# Altium integrated library Silicon Labs Automotive & Industrial MCUs.IntLib: 240 symbols (part 7 of 8)
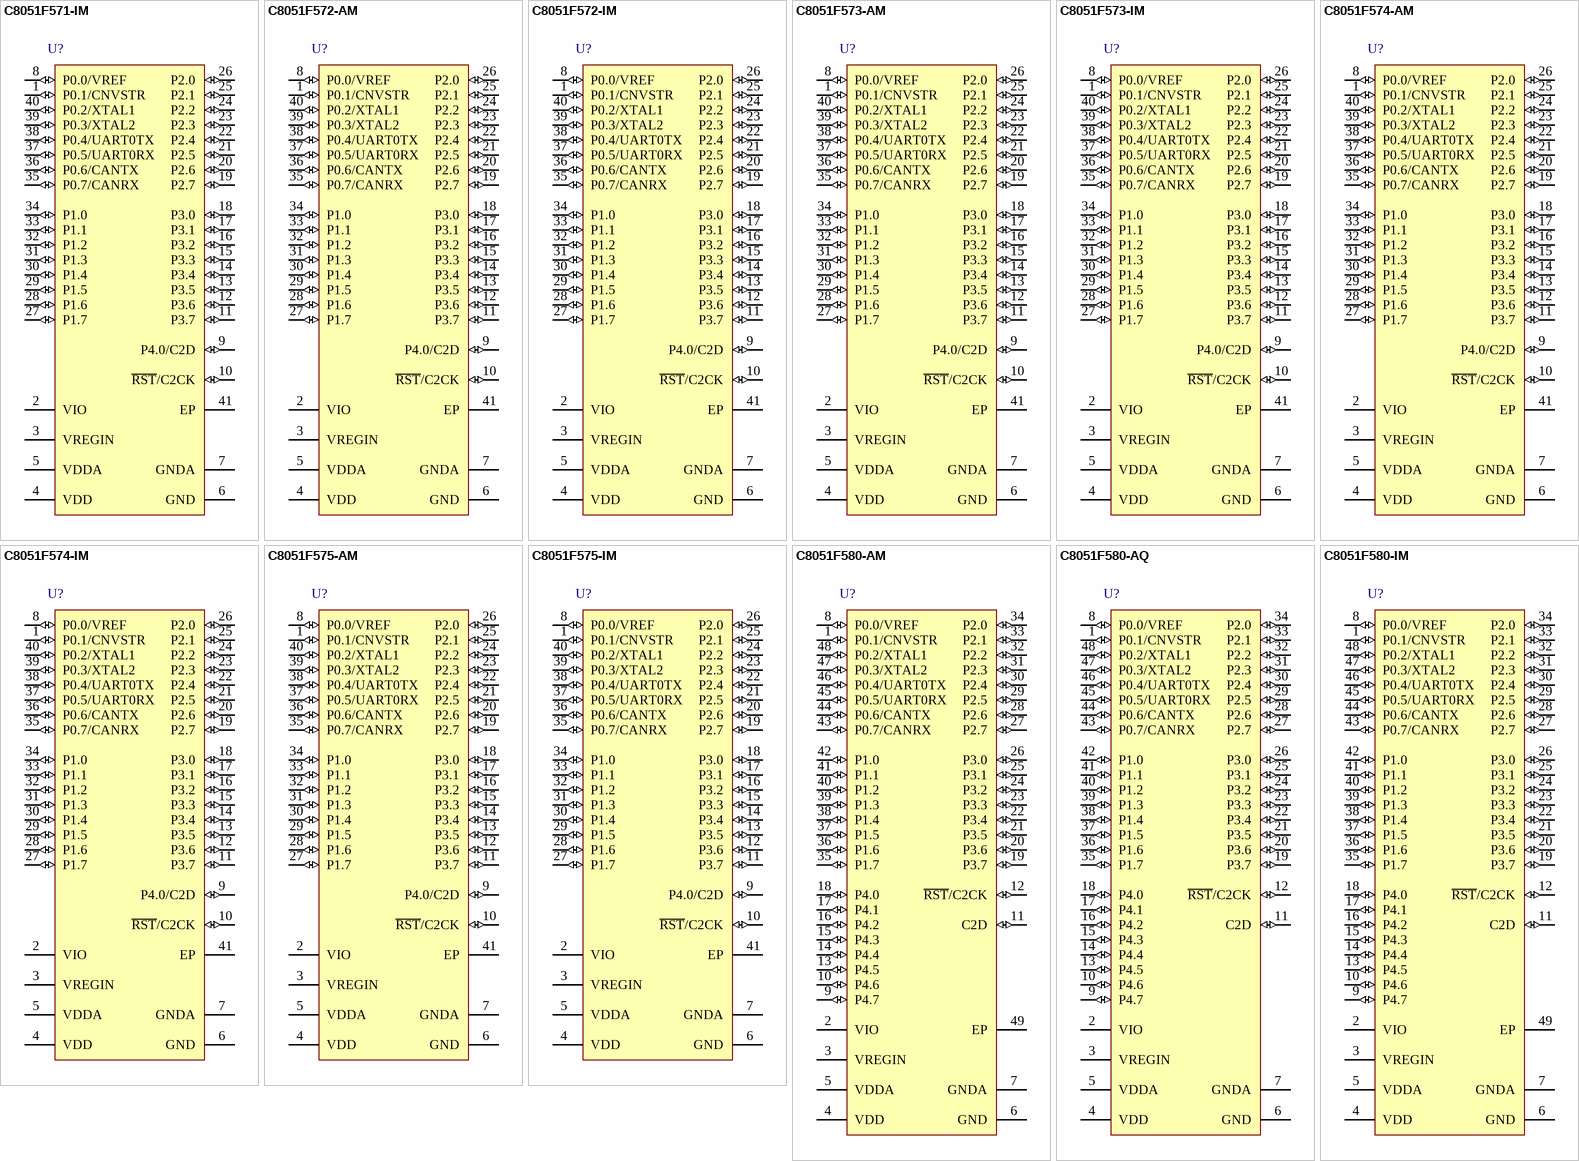
[diagram p19: symbols C8051F571-IM to C8051F580-IM]

## C8051F580-IM
designator U?
Mixed Signal 128KB ISP Flash MCU, 8448B RAM, 40 I/Os, 12-Bit 32 Channel ADC, CAN 2.0, LIN 2.1, 48-Pin QFN, Industrial Grade; Manufacturer: Silicon Labs; PartNumber: C8051F580-IM; DatasheetVersion: rev1.2, 2011; PackageVersion: 2011; PackageReference: QFN-48; PackageDescription: 48-Pin Quad Flat No-Lead, 7 x 7 x 0.9 mm Body, 0.5 mm Pitch; Supplier 1: Digi-Key; Supplier Part Number 1: 336-1565-5-ND; Supplier 2: Mouser; Supplier Part Number 2: 634-C8051F580-IM; Code_JEDEC: MO-220-VKKD-4; ComponentLink1Description: Manufacturer URL; ComponentLink1URL: http://www.silabs.com; ComponentLink2Description: Datasheet; ComponentLink2URL: http://www.silabs.com/Support%20Documents/TechnicalDocs/C8051F58x-59x.pdf
footprint QFN-48_V (QFN, 48-Leads, Body 7x7mm, Pitch 0.5mm, Thermal Pad 4.05x4.05mm, Silicon Labs Recommended)
pins: 1 P0.1/CNVSTR (io), 2 VIO (power), 3 VREGIN (power), 4 VDD (power), 5 VDDA (power), 6 GND (power), 7 GNDA (power), 8 P0.0/VREF (io), 9 P4.7 (io), 10 P4.6 (io), 11 C2D (io), 12 ~{RST}/C2CK (io), 13 P4.5 (io), 14 P4.4 (io), 15 P4.3 (io), 16 P4.2 (io), 17 P4.1 (io), 18 P4.0 (io), 19 P3.7 (io), 20 P3.6 (io), 21 P3.5 (io), 22 P3.4 (io), 23 P3.3 (io), 24 P3.2 (io), 25 P3.1 (io), 26 P3.0 (io), 27 P2.7 (io), 28 P2.6 (io), 29 P2.5 (io), 30 P2.4 (io), 31 P2.3 (io), 32 P2.2 (io), 33 P2.1 (io), 34 P2.0 (io), 35 P1.7 (io), 36 P1.6 (io), 37 P1.5 (io), 38 P1.4 (io), 39 P1.3 (io), 40 P1.2 (io), 41 P1.1 (io), 42 P1.0 (io), 43 P0.7/CANRX (io), 44 P0.6/CANTX (io), 45 P0.5/UART0RX (io), 46 P0.4/UART0TX (io), 47 P0.3/XTAL2 (io), 48 P0.2/XTAL1 (io), 49 EP (power)

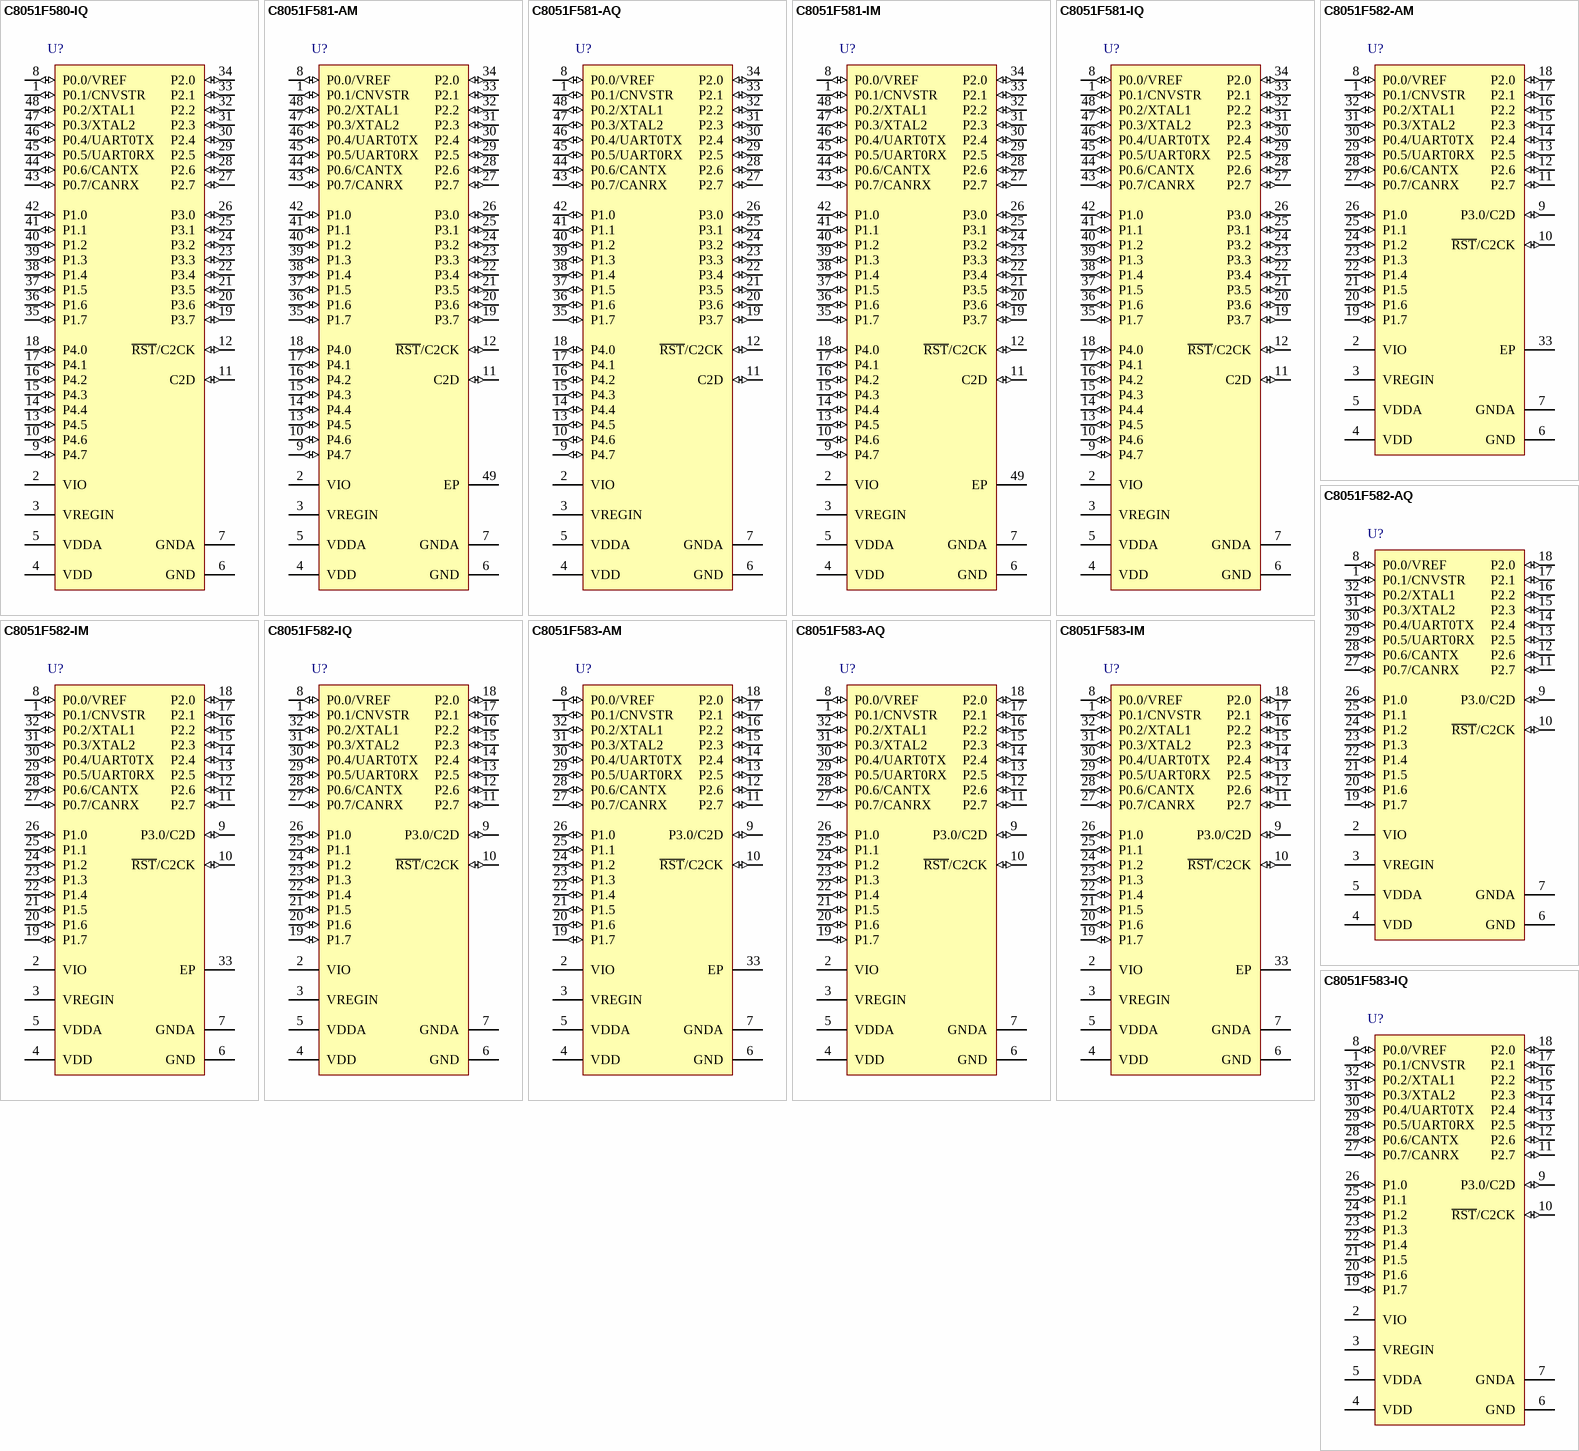
[diagram p11: symbols C8051F580-IQ to C8051F583-IQ]

## C8051F580-IQ
designator U?
Mixed Signal 128KB ISP Flash MCU, 8448B RAM, 40 I/Os, 12-Bit 32 Channel ADC, CAN 2.0, LIN 2.1, 48-Pin QFP, Industrial Grade; Manufacturer: Silicon Labs; PartNumber: C8051F580-IQ; DatasheetVersion: rev1.2, 2011; PackageVersion: 2011; PackageReference: QFP-48; PackageDescription: 48-Pin Thin Quad Flat Pack, 7 x 7 x 1 mm Body, 0.5 mm Pitch; Supplier 1: Digi-Key; Supplier Part Number 1: 336-1564-ND; Supplier 2: Mouser; Supplier Part Number 2: 634-C8051F580-IQ; Code_JEDEC: MS-026-ABC; ComponentLink1Description: Manufacturer URL; ComponentLink1URL: http://www.silabs.com; ComponentLink2Description: Datasheet; ComponentLink2URL: http://www.silabs.com/Support%20Documents/TechnicalDocs/C8051F58x-59x.pdf
footprint QFP-48_N (Thin QFP, 48-Leads, Body 7x7mm, Pitch 0.5mm, IPC Medium Density)
footprint QFP-48_L (Thin QFP, 48-Leads, Body 7x7mm, Pitch 0.5mm, IPC High Density)
footprint QFP-48_M (Thin QFP, 48-Leads, Body 7x7mm, Pitch 0.5mm, IPC Low Density)
pins: 1 P0.1/CNVSTR (io), 2 VIO (power), 3 VREGIN (power), 4 VDD (power), 5 VDDA (power), 6 GND (power), 7 GNDA (power), 8 P0.0/VREF (io), 9 P4.7 (io), 10 P4.6 (io), 11 C2D (io), 12 ~{RST}/C2CK (io), 13 P4.5 (io), 14 P4.4 (io), 15 P4.3 (io), 16 P4.2 (io), 17 P4.1 (io), 18 P4.0 (io), 19 P3.7 (io), 20 P3.6 (io), 21 P3.5 (io), 22 P3.4 (io), 23 P3.3 (io), 24 P3.2 (io), 25 P3.1 (io), 26 P3.0 (io), 27 P2.7 (io), 28 P2.6 (io), 29 P2.5 (io), 30 P2.4 (io), 31 P2.3 (io), 32 P2.2 (io), 33 P2.1 (io), 34 P2.0 (io), 35 P1.7 (io), 36 P1.6 (io), 37 P1.5 (io), 38 P1.4 (io), 39 P1.3 (io), 40 P1.2 (io), 41 P1.1 (io), 42 P1.0 (io), 43 P0.7/CANRX (io), 44 P0.6/CANTX (io), 45 P0.5/UART0RX (io), 46 P0.4/UART0TX (io), 47 P0.3/XTAL2 (io), 48 P0.2/XTAL1 (io)

## C8051F581-AM
designator U?
Mixed Signal 128KB ISP Flash MCU, 8448B RAM, 40 I/Os, 12-Bit 32 Channel ADC, 48-Pin QFN, Automotive Grade; Manufacturer: Silicon Labs; PartNumber: C8051F581-AM; DatasheetVersion: rev1.2, 2011; PackageVersion: 2011; PackageReference: QFN-48; PackageDescription: 48-Pin Quad Flat No-Lead, 7 x 7 x 0.9 mm Body, 0.5 mm Pitch; Code_JEDEC: MO-220-VKKD-4; ComponentLink1Description: Manufacturer URL; ComponentLink1URL: http://www.silabs.com; ComponentLink2Description: Datasheet; ComponentLink2URL: http://www.silabs.com/Support%20Documents/TechnicalDocs/C8051F58x-59x.pdf
footprint QFN-48_V (QFN, 48-Leads, Body 7x7mm, Pitch 0.5mm, Thermal Pad 4.05x4.05mm, Silicon Labs Recommended)
pins: 1 P0.1/CNVSTR (io), 2 VIO (power), 3 VREGIN (power), 4 VDD (power), 5 VDDA (power), 6 GND (power), 7 GNDA (power), 8 P0.0/VREF (io), 9 P4.7 (io), 10 P4.6 (io), 11 C2D (io), 12 ~{RST}/C2CK (io), 13 P4.5 (io), 14 P4.4 (io), 15 P4.3 (io), 16 P4.2 (io), 17 P4.1 (io), 18 P4.0 (io), 19 P3.7 (io), 20 P3.6 (io), 21 P3.5 (io), 22 P3.4 (io), 23 P3.3 (io), 24 P3.2 (io), 25 P3.1 (io), 26 P3.0 (io), 27 P2.7 (io), 28 P2.6 (io), 29 P2.5 (io), 30 P2.4 (io), 31 P2.3 (io), 32 P2.2 (io), 33 P2.1 (io), 34 P2.0 (io), 35 P1.7 (io), 36 P1.6 (io), 37 P1.5 (io), 38 P1.4 (io), 39 P1.3 (io), 40 P1.2 (io), 41 P1.1 (io), 42 P1.0 (io), 43 P0.7/CANRX (io), 44 P0.6/CANTX (io), 45 P0.5/UART0RX (io), 46 P0.4/UART0TX (io), 47 P0.3/XTAL2 (io), 48 P0.2/XTAL1 (io), 49 EP (power)

## C8051F581-AQ
designator U?
Mixed Signal 128KB ISP Flash MCU, 8448B RAM, 40 I/Os, 12-Bit 32 Channel ADC, 48-Pin QFP, Automotive Grade; Manufacturer: Silicon Labs; PartNumber: C8051F581-AQ; DatasheetVersion: rev1.2, 2011; PackageVersion: 2011; PackageReference: QFP-48; PackageDescription: 48-Pin Thin Quad Flat Pack, 7 x 7 x 1 mm Body, 0.5 mm Pitch; Code_JEDEC: MS-026-ABC; ComponentLink1Description: Manufacturer URL; ComponentLink1URL: http://www.silabs.com; ComponentLink2Description: Datasheet; ComponentLink2URL: http://www.silabs.com/Support%20Documents/TechnicalDocs/C8051F58x-59x.pdf
footprint QFP-48_N (Thin QFP, 48-Leads, Body 7x7mm, Pitch 0.5mm, IPC Medium Density)
footprint QFP-48_L (Thin QFP, 48-Leads, Body 7x7mm, Pitch 0.5mm, IPC High Density)
footprint QFP-48_M (Thin QFP, 48-Leads, Body 7x7mm, Pitch 0.5mm, IPC Low Density)
pins: 1 P0.1/CNVSTR (io), 2 VIO (power), 3 VREGIN (power), 4 VDD (power), 5 VDDA (power), 6 GND (power), 7 GNDA (power), 8 P0.0/VREF (io), 9 P4.7 (io), 10 P4.6 (io), 11 C2D (io), 12 ~{RST}/C2CK (io), 13 P4.5 (io), 14 P4.4 (io), 15 P4.3 (io), 16 P4.2 (io), 17 P4.1 (io), 18 P4.0 (io), 19 P3.7 (io), 20 P3.6 (io), 21 P3.5 (io), 22 P3.4 (io), 23 P3.3 (io), 24 P3.2 (io), 25 P3.1 (io), 26 P3.0 (io), 27 P2.7 (io), 28 P2.6 (io), 29 P2.5 (io), 30 P2.4 (io), 31 P2.3 (io), 32 P2.2 (io), 33 P2.1 (io), 34 P2.0 (io), 35 P1.7 (io), 36 P1.6 (io), 37 P1.5 (io), 38 P1.4 (io), 39 P1.3 (io), 40 P1.2 (io), 41 P1.1 (io), 42 P1.0 (io), 43 P0.7/CANRX (io), 44 P0.6/CANTX (io), 45 P0.5/UART0RX (io), 46 P0.4/UART0TX (io), 47 P0.3/XTAL2 (io), 48 P0.2/XTAL1 (io)

## C8051F581-IM
designator U?
Mixed Signal 128KB ISP Flash MCU, 8448B RAM, 40 I/Os, 12-Bit 32 Channel ADC, 48-Pin QFN, Industrial Grade; Manufacturer: Silicon Labs; PartNumber: C8051F581-IM; DatasheetVersion: rev1.2, 2011; PackageVersion: 2011; PackageReference: QFN-48; PackageDescription: 48-Pin Quad Flat No-Lead, 7 x 7 x 0.9 mm Body, 0.5 mm Pitch; Supplier 1: Digi-Key; Supplier Part Number 1: 336-1567-5-ND; Supplier 2: Mouser; Supplier Part Number 2: 634-C8051F581-IM; Code_JEDEC: MO-220-VKKD-4; ComponentLink1Description: Manufacturer URL; ComponentLink1URL: http://www.silabs.com; ComponentLink2Description: Datasheet; ComponentLink2URL: http://www.silabs.com/Support%20Documents/TechnicalDocs/C8051F58x-59x.pdf
footprint QFN-48_V (QFN, 48-Leads, Body 7x7mm, Pitch 0.5mm, Thermal Pad 4.05x4.05mm, Silicon Labs Recommended)
pins: 1 P0.1/CNVSTR (io), 2 VIO (power), 3 VREGIN (power), 4 VDD (power), 5 VDDA (power), 6 GND (power), 7 GNDA (power), 8 P0.0/VREF (io), 9 P4.7 (io), 10 P4.6 (io), 11 C2D (io), 12 ~{RST}/C2CK (io), 13 P4.5 (io), 14 P4.4 (io), 15 P4.3 (io), 16 P4.2 (io), 17 P4.1 (io), 18 P4.0 (io), 19 P3.7 (io), 20 P3.6 (io), 21 P3.5 (io), 22 P3.4 (io), 23 P3.3 (io), 24 P3.2 (io), 25 P3.1 (io), 26 P3.0 (io), 27 P2.7 (io), 28 P2.6 (io), 29 P2.5 (io), 30 P2.4 (io), 31 P2.3 (io), 32 P2.2 (io), 33 P2.1 (io), 34 P2.0 (io), 35 P1.7 (io), 36 P1.6 (io), 37 P1.5 (io), 38 P1.4 (io), 39 P1.3 (io), 40 P1.2 (io), 41 P1.1 (io), 42 P1.0 (io), 43 P0.7/CANRX (io), 44 P0.6/CANTX (io), 45 P0.5/UART0RX (io), 46 P0.4/UART0TX (io), 47 P0.3/XTAL2 (io), 48 P0.2/XTAL1 (io), 49 EP (power)

## C8051F581-IQ
designator U?
Mixed Signal 128KB ISP Flash MCU, 8448B RAM, 40 I/Os, 12-Bit 32 Channel ADC, 48-Pin QFP, Industrial Grade; Manufacturer: Silicon Labs; PartNumber: C8051F581-IQ; DatasheetVersion: rev1.2, 2011; PackageVersion: 2011; PackageReference: QFP-48; PackageDescription: 48-Pin Thin Quad Flat Pack, 7 x 7 x 1 mm Body, 0.5 mm Pitch; Supplier 1: Digi-Key; Supplier Part Number 1: 336-1566-ND; Supplier 2: Mouser; Supplier Part Number 2: 634-C8051F581-IQ; Code_JEDEC: MS-026-ABC; ComponentLink1Description: Manufacturer URL; ComponentLink1URL: http://www.silabs.com; ComponentLink2Description: Datasheet; ComponentLink2URL: http://www.silabs.com/Support%20Documents/TechnicalDocs/C8051F58x-59x.pdf
footprint QFP-48_N (Thin QFP, 48-Leads, Body 7x7mm, Pitch 0.5mm, IPC Medium Density)
footprint QFP-48_L (Thin QFP, 48-Leads, Body 7x7mm, Pitch 0.5mm, IPC High Density)
footprint QFP-48_M (Thin QFP, 48-Leads, Body 7x7mm, Pitch 0.5mm, IPC Low Density)
pins: 1 P0.1/CNVSTR (io), 2 VIO (power), 3 VREGIN (power), 4 VDD (power), 5 VDDA (power), 6 GND (power), 7 GNDA (power), 8 P0.0/VREF (io), 9 P4.7 (io), 10 P4.6 (io), 11 C2D (io), 12 ~{RST}/C2CK (io), 13 P4.5 (io), 14 P4.4 (io), 15 P4.3 (io), 16 P4.2 (io), 17 P4.1 (io), 18 P4.0 (io), 19 P3.7 (io), 20 P3.6 (io), 21 P3.5 (io), 22 P3.4 (io), 23 P3.3 (io), 24 P3.2 (io), 25 P3.1 (io), 26 P3.0 (io), 27 P2.7 (io), 28 P2.6 (io), 29 P2.5 (io), 30 P2.4 (io), 31 P2.3 (io), 32 P2.2 (io), 33 P2.1 (io), 34 P2.0 (io), 35 P1.7 (io), 36 P1.6 (io), 37 P1.5 (io), 38 P1.4 (io), 39 P1.3 (io), 40 P1.2 (io), 41 P1.1 (io), 42 P1.0 (io), 43 P0.7/CANRX (io), 44 P0.6/CANTX (io), 45 P0.5/UART0RX (io), 46 P0.4/UART0TX (io), 47 P0.3/XTAL2 (io), 48 P0.2/XTAL1 (io)

## C8051F582-AM
designator U?
Mixed Signal 128KB ISP Flash MCU, 8448B RAM, 25 I/Os, 12-Bit 25 Channel ADC, CAN 2.0, LIN 2.1, 32-Pin QFN, Automotive Grade; Manufacturer: Silicon Labs; PartNumber: C8051F582-AM; DatasheetVersion: rev1.2, 2011; PackageVersion: 2011; PackageReference: QFN-32; PackageDescription: 32-Pin Quad Flat No-Lead, 5 x 5 x 0.9 mm Body, 0.5 mm Pitch; Code_JEDEC: MO-220-VHHD; ComponentLink1Description: Manufacturer URL; ComponentLink1URL: http://www.silabs.com; ComponentLink2Description: Datasheet; ComponentLink2URL: http://www.silabs.com/Support%20Documents/TechnicalDocs/C8051F58x-59x.pdf
footprint QFN-32_V (QFN, 32-Leads, Body 5x5mm, Pitch 0.5mm, Thermal Pad 3.3x3.3mm, Silicon Labs Recommended)
pins: 1 P0.1/CNVSTR (io), 2 VIO (power), 3 VREGIN (power), 4 VDD (power), 5 VDDA (power), 6 GND (power), 7 GNDA (power), 8 P0.0/VREF (io), 9 P3.0/C2D (io), 10 ~{RST}/C2CK (io), 11 P2.7 (io), 12 P2.6 (io), 13 P2.5 (io), 14 P2.4 (io), 15 P2.3 (io), 16 P2.2 (io), 17 P2.1 (io), 18 P2.0 (io), 19 P1.7 (io), 20 P1.6 (io), 21 P1.5 (io), 22 P1.4 (io), 23 P1.3 (io), 24 P1.2 (io), 25 P1.1 (io), 26 P1.0 (io), 27 P0.7/CANRX (io), 28 P0.6/CANTX (io), 29 P0.5/UART0RX (io), 30 P0.4/UART0TX (io), 31 P0.3/XTAL2 (io), 32 P0.2/XTAL1 (io), 33 EP (power)

## C8051F582-AQ
designator U?
Mixed Signal 128KB ISP Flash MCU, 8448B RAM, 25 I/Os, 12-Bit 25 Channel ADC, CAN 2.0, LIN 2.1, 32-Pin QFP, Automotive Grade; Manufacturer: Silicon Labs; PartNumber: C8051F582-AQ; DatasheetVersion: rev1.2, 2011; PackageVersion: 2007; PackageReference: LQFP-32; PackageDescription: 32-Pin Thin Quad Flat Pack, 7 x 7 x 1.4 mm Body, 0.8 mm Pitch; ComponentLink1Description: Manufacturer URL; ComponentLink1URL: http://www.silabs.com; ComponentLink2Description: Datasheet; ComponentLink2URL: http://www.silabs.com/Support%20Documents/TechnicalDocs/C8051F58x-59x.pdf
footprint LQFP-32_N (Thin QFP, 32-Leads, Body 7x7mm, Pitch 0.8mm, IPC Medium Density)
footprint LQFP-32_L (Thin QFP, 32-Leads, Body 7x7mm, Pitch 0.8mm, IPC High Density)
footprint LQFP-32_M (Thin QFP, 32-Leads, Body 7x7mm, Pitch 0.8mm, IPC Low Density)
pins: 1 P0.1/CNVSTR (io), 2 VIO (power), 3 VREGIN (power), 4 VDD (power), 5 VDDA (power), 6 GND (power), 7 GNDA (power), 8 P0.0/VREF (io), 9 P3.0/C2D (io), 10 ~{RST}/C2CK (io), 11 P2.7 (io), 12 P2.6 (io), 13 P2.5 (io), 14 P2.4 (io), 15 P2.3 (io), 16 P2.2 (io), 17 P2.1 (io), 18 P2.0 (io), 19 P1.7 (io), 20 P1.6 (io), 21 P1.5 (io), 22 P1.4 (io), 23 P1.3 (io), 24 P1.2 (io), 25 P1.1 (io), 26 P1.0 (io), 27 P0.7/CANRX (io), 28 P0.6/CANTX (io), 29 P0.5/UART0RX (io), 30 P0.4/UART0TX (io), 31 P0.3/XTAL2 (io), 32 P0.2/XTAL1 (io)

## C8051F582-IM
designator U?
Mixed Signal 128KB ISP Flash MCU, 8448B RAM, 25 I/Os, 12-Bit 25 Channel ADC, CAN 2.0, LIN 2.1, 32-Pin QFN, Industrial Grade; Manufacturer: Silicon Labs; PartNumber: C8051F582-IM; DatasheetVersion: rev1.2, 2011; PackageVersion: 2011; PackageReference: QFN-32; PackageDescription: 32-Pin Quad Flat No-Lead, 5 x 5 x 0.9 mm Body, 0.5 mm Pitch; Supplier 1: Digi-Key; Supplier Part Number 1: 336-1569-5-ND; Supplier 2: Mouser; Supplier Part Number 2: 634-C8051F582-IM; Code_JEDEC: MO-220-VHHD; ComponentLink1Description: Manufacturer URL; ComponentLink1URL: http://www.silabs.com; ComponentLink2Description: Datasheet; ComponentLink2URL: http://www.silabs.com/Support%20Documents/TechnicalDocs/C8051F58x-59x.pdf
footprint QFN-32_V (QFN, 32-Leads, Body 5x5mm, Pitch 0.5mm, Thermal Pad 3.3x3.3mm, Silicon Labs Recommended)
pins: 1 P0.1/CNVSTR (io), 2 VIO (power), 3 VREGIN (power), 4 VDD (power), 5 VDDA (power), 6 GND (power), 7 GNDA (power), 8 P0.0/VREF (io), 9 P3.0/C2D (io), 10 ~{RST}/C2CK (io), 11 P2.7 (io), 12 P2.6 (io), 13 P2.5 (io), 14 P2.4 (io), 15 P2.3 (io), 16 P2.2 (io), 17 P2.1 (io), 18 P2.0 (io), 19 P1.7 (io), 20 P1.6 (io), 21 P1.5 (io), 22 P1.4 (io), 23 P1.3 (io), 24 P1.2 (io), 25 P1.1 (io), 26 P1.0 (io), 27 P0.7/CANRX (io), 28 P0.6/CANTX (io), 29 P0.5/UART0RX (io), 30 P0.4/UART0TX (io), 31 P0.3/XTAL2 (io), 32 P0.2/XTAL1 (io), 33 EP (power)

## C8051F582-IQ
designator U?
Mixed Signal 128KB ISP Flash MCU, 8448B RAM, 25 I/Os, 12-Bit 25 Channel ADC, CAN 2.0, LIN 2.1, 32-Pin QFP, Industrial Grade; Manufacturer: Silicon Labs; PartNumber: C8051F582-IQ; DatasheetVersion: rev1.2, 2011; PackageVersion: 2007; PackageReference: LQFP-32; PackageDescription: 32-Pin Thin Quad Flat Pack, 7 x 7 x 1.4 mm Body, 0.8 mm Pitch; Supplier 1: Digi-Key; Supplier Part Number 1: 336-1568-ND; Supplier 2: Mouser; Supplier Part Number 2: 634-C8051F582-IQ; ComponentLink1Description: Manufacturer URL; ComponentLink1URL: http://www.silabs.com; ComponentLink2Description: Datasheet; ComponentLink2URL: http://www.silabs.com/Support%20Documents/TechnicalDocs/C8051F58x-59x.pdf
footprint LQFP-32_N (Thin QFP, 32-Leads, Body 7x7mm, Pitch 0.8mm, IPC Medium Density)
footprint LQFP-32_L (Thin QFP, 32-Leads, Body 7x7mm, Pitch 0.8mm, IPC High Density)
footprint LQFP-32_M (Thin QFP, 32-Leads, Body 7x7mm, Pitch 0.8mm, IPC Low Density)
pins: 1 P0.1/CNVSTR (io), 2 VIO (power), 3 VREGIN (power), 4 VDD (power), 5 VDDA (power), 6 GND (power), 7 GNDA (power), 8 P0.0/VREF (io), 9 P3.0/C2D (io), 10 ~{RST}/C2CK (io), 11 P2.7 (io), 12 P2.6 (io), 13 P2.5 (io), 14 P2.4 (io), 15 P2.3 (io), 16 P2.2 (io), 17 P2.1 (io), 18 P2.0 (io), 19 P1.7 (io), 20 P1.6 (io), 21 P1.5 (io), 22 P1.4 (io), 23 P1.3 (io), 24 P1.2 (io), 25 P1.1 (io), 26 P1.0 (io), 27 P0.7/CANRX (io), 28 P0.6/CANTX (io), 29 P0.5/UART0RX (io), 30 P0.4/UART0TX (io), 31 P0.3/XTAL2 (io), 32 P0.2/XTAL1 (io)

## C8051F583-AM
designator U?
Mixed Signal 128KB ISP Flash MCU, 8448B RAM, 25 I/Os, 12-Bit 25 Channel ADC, 32-Pin QFN, Automotive Grade; Manufacturer: Silicon Labs; PartNumber: C8051F583-AM; DatasheetVersion: rev1.2, 2011; PackageVersion: 2011; PackageReference: QFN-32; PackageDescription: 32-Pin Quad Flat No-Lead, 5 x 5 x 0.9 mm Body, 0.5 mm Pitch; Code_JEDEC: MO-220-VHHD; ComponentLink1Description: Manufacturer URL; ComponentLink1URL: http://www.silabs.com; ComponentLink2Description: Datasheet; ComponentLink2URL: http://www.silabs.com/Support%20Documents/TechnicalDocs/C8051F58x-59x.pdf
footprint QFN-32_V (QFN, 32-Leads, Body 5x5mm, Pitch 0.5mm, Thermal Pad 3.3x3.3mm, Silicon Labs Recommended)
pins: 1 P0.1/CNVSTR (io), 2 VIO (power), 3 VREGIN (power), 4 VDD (power), 5 VDDA (power), 6 GND (power), 7 GNDA (power), 8 P0.0/VREF (io), 9 P3.0/C2D (io), 10 ~{RST}/C2CK (io), 11 P2.7 (io), 12 P2.6 (io), 13 P2.5 (io), 14 P2.4 (io), 15 P2.3 (io), 16 P2.2 (io), 17 P2.1 (io), 18 P2.0 (io), 19 P1.7 (io), 20 P1.6 (io), 21 P1.5 (io), 22 P1.4 (io), 23 P1.3 (io), 24 P1.2 (io), 25 P1.1 (io), 26 P1.0 (io), 27 P0.7/CANRX (io), 28 P0.6/CANTX (io), 29 P0.5/UART0RX (io), 30 P0.4/UART0TX (io), 31 P0.3/XTAL2 (io), 32 P0.2/XTAL1 (io), 33 EP (power)

## C8051F583-AQ
designator U?
Mixed Signal 128KB ISP Flash MCU, 8448B RAM, 25 I/Os, 12-Bit 25 Channel ADC, 32-Pin QFP, Automotive Grade; Manufacturer: Silicon Labs; PartNumber: C8051F583-AQ; DatasheetVersion: rev1.2, 2011; PackageVersion: 2007; PackageReference: LQFP-32; PackageDescription: 32-Pin Thin Quad Flat Pack, 7 x 7 x 1.4 mm Body, 0.8 mm Pitch; ComponentLink1Description: Manufacturer URL; ComponentLink1URL: http://www.silabs.com; ComponentLink2Description: Datasheet; ComponentLink2URL: http://www.silabs.com/Support%20Documents/TechnicalDocs/C8051F58x-59x.pdf
footprint LQFP-32_N (Thin QFP, 32-Leads, Body 7x7mm, Pitch 0.8mm, IPC Medium Density)
footprint LQFP-32_L (Thin QFP, 32-Leads, Body 7x7mm, Pitch 0.8mm, IPC High Density)
footprint LQFP-32_M (Thin QFP, 32-Leads, Body 7x7mm, Pitch 0.8mm, IPC Low Density)
pins: 1 P0.1/CNVSTR (io), 2 VIO (power), 3 VREGIN (power), 4 VDD (power), 5 VDDA (power), 6 GND (power), 7 GNDA (power), 8 P0.0/VREF (io), 9 P3.0/C2D (io), 10 ~{RST}/C2CK (io), 11 P2.7 (io), 12 P2.6 (io), 13 P2.5 (io), 14 P2.4 (io), 15 P2.3 (io), 16 P2.2 (io), 17 P2.1 (io), 18 P2.0 (io), 19 P1.7 (io), 20 P1.6 (io), 21 P1.5 (io), 22 P1.4 (io), 23 P1.3 (io), 24 P1.2 (io), 25 P1.1 (io), 26 P1.0 (io), 27 P0.7/CANRX (io), 28 P0.6/CANTX (io), 29 P0.5/UART0RX (io), 30 P0.4/UART0TX (io), 31 P0.3/XTAL2 (io), 32 P0.2/XTAL1 (io)

## C8051F583-IM
designator U?
Mixed Signal 128KB ISP Flash MCU, 8448B RAM, 25 I/Os, 12-Bit 25 Channel ADC, 32-Pin QFN, Industrial Grade; Manufacturer: Silicon Labs; PartNumber: C8051F583-IM; DatasheetVersion: rev1.2, 2011; PackageVersion: 2011; PackageReference: QFN-32; PackageDescription: 32-Pin Quad Flat No-Lead, 5 x 5 x 0.9 mm Body, 0.5 mm Pitch; Supplier 1: Digi-Key; Supplier Part Number 1: 336-1571-5-ND; Supplier 2: Mouser; Supplier Part Number 2: 634-C8051F583-IM; Code_JEDEC: MO-220-VHHD; ComponentLink1Description: Manufacturer URL; ComponentLink1URL: http://www.silabs.com; ComponentLink2Description: Datasheet; ComponentLink2URL: http://www.silabs.com/Support%20Documents/TechnicalDocs/C8051F58x-59x.pdf
footprint QFN-32_V (QFN, 32-Leads, Body 5x5mm, Pitch 0.5mm, Thermal Pad 3.3x3.3mm, Silicon Labs Recommended)
pins: 1 P0.1/CNVSTR (io), 2 VIO (power), 3 VREGIN (power), 4 VDD (power), 5 VDDA (power), 6 GND (power), 7 GNDA (power), 8 P0.0/VREF (io), 9 P3.0/C2D (io), 10 ~{RST}/C2CK (io), 11 P2.7 (io), 12 P2.6 (io), 13 P2.5 (io), 14 P2.4 (io), 15 P2.3 (io), 16 P2.2 (io), 17 P2.1 (io), 18 P2.0 (io), 19 P1.7 (io), 20 P1.6 (io), 21 P1.5 (io), 22 P1.4 (io), 23 P1.3 (io), 24 P1.2 (io), 25 P1.1 (io), 26 P1.0 (io), 27 P0.7/CANRX (io), 28 P0.6/CANTX (io), 29 P0.5/UART0RX (io), 30 P0.4/UART0TX (io), 31 P0.3/XTAL2 (io), 32 P0.2/XTAL1 (io), 33 EP (power)

## C8051F583-IQ
designator U?
Mixed Signal 128KB ISP Flash MCU, 8448B RAM, 25 I/Os, 12-Bit 25 Channel ADC, 32-Pin QFP, Industrial Grade; Manufacturer: Silicon Labs; PartNumber: C8051F583-IQ; DatasheetVersion: rev1.2, 2011; PackageVersion: 2007; PackageReference: LQFP-32; PackageDescription: 32-Pin Thin Quad Flat Pack, 7 x 7 x 1.4 mm Body, 0.8 mm Pitch; Supplier 1: Digi-Key; Supplier Part Number 1: 336-1570-ND; Supplier 2: Mouser; Supplier Part Number 2: 634-C8051F583-IQ; ComponentLink1Description: Manufacturer URL; ComponentLink1URL: http://www.silabs.com; ComponentLink2Description: Datasheet; ComponentLink2URL: http://www.silabs.com/Support%20Documents/TechnicalDocs/C8051F58x-59x.pdf
footprint LQFP-32_N (Thin QFP, 32-Leads, Body 7x7mm, Pitch 0.8mm, IPC Medium Density)
footprint LQFP-32_L (Thin QFP, 32-Leads, Body 7x7mm, Pitch 0.8mm, IPC High Density)
footprint LQFP-32_M (Thin QFP, 32-Leads, Body 7x7mm, Pitch 0.8mm, IPC Low Density)
pins: 1 P0.1/CNVSTR (io), 2 VIO (power), 3 VREGIN (power), 4 VDD (power), 5 VDDA (power), 6 GND (power), 7 GNDA (power), 8 P0.0/VREF (io), 9 P3.0/C2D (io), 10 ~{RST}/C2CK (io), 11 P2.7 (io), 12 P2.6 (io), 13 P2.5 (io), 14 P2.4 (io), 15 P2.3 (io), 16 P2.2 (io), 17 P2.1 (io), 18 P2.0 (io), 19 P1.7 (io), 20 P1.6 (io), 21 P1.5 (io), 22 P1.4 (io), 23 P1.3 (io), 24 P1.2 (io), 25 P1.1 (io), 26 P1.0 (io), 27 P0.7/CANRX (io), 28 P0.6/CANTX (io), 29 P0.5/UART0RX (io), 30 P0.4/UART0TX (io), 31 P0.3/XTAL2 (io), 32 P0.2/XTAL1 (io)

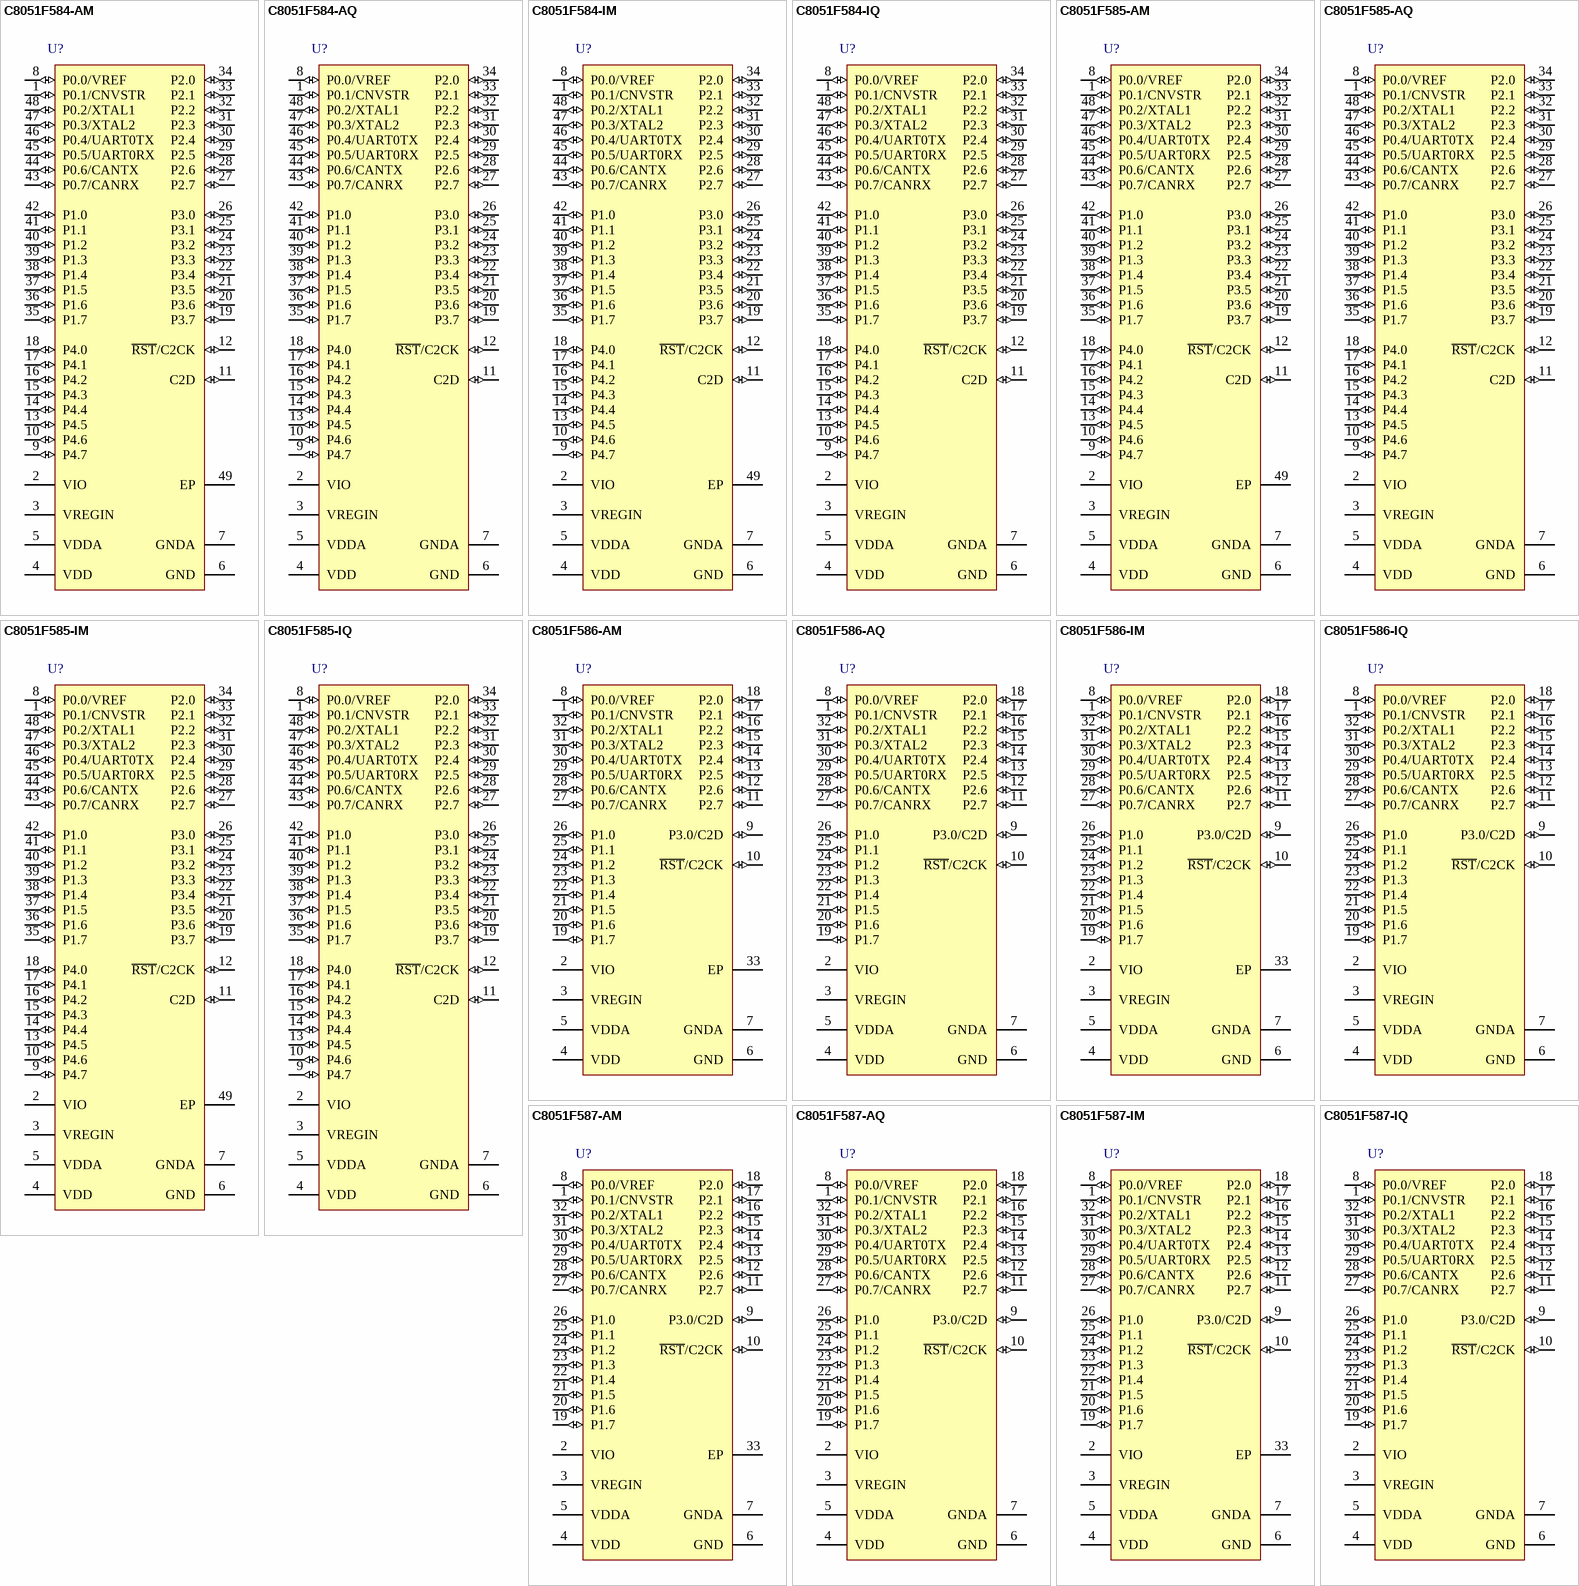
[diagram p12: symbols C8051F584-AM to C8051F587-IQ]

## C8051F584-AM
designator U?
Mixed Signal 96KB ISP Flash MCU, 8448B RAM, 40 I/Os, 12-Bit 32 Channel ADC, CAN 2.0, LIN 2.1, 48-Pin QFN, Automotive Grade; Manufacturer: Silicon Labs; PartNumber: C8051F584-AM; DatasheetVersion: rev1.2, 2011; PackageVersion: 2011; PackageReference: QFN-48; PackageDescription: 48-Pin Quad Flat No-Lead, 7 x 7 x 0.9 mm Body, 0.5 mm Pitch; Code_JEDEC: MO-220-VKKD-4; ComponentLink1Description: Manufacturer URL; ComponentLink1URL: http://www.silabs.com; ComponentLink2Description: Datasheet; ComponentLink2URL: http://www.silabs.com/Support%20Documents/TechnicalDocs/C8051F58x-59x.pdf
footprint QFN-48_V (QFN, 48-Leads, Body 7x7mm, Pitch 0.5mm, Thermal Pad 4.05x4.05mm, Silicon Labs Recommended)
pins: 1 P0.1/CNVSTR (io), 2 VIO (power), 3 VREGIN (power), 4 VDD (power), 5 VDDA (power), 6 GND (power), 7 GNDA (power), 8 P0.0/VREF (io), 9 P4.7 (io), 10 P4.6 (io), 11 C2D (io), 12 ~{RST}/C2CK (io), 13 P4.5 (io), 14 P4.4 (io), 15 P4.3 (io), 16 P4.2 (io), 17 P4.1 (io), 18 P4.0 (io), 19 P3.7 (io), 20 P3.6 (io), 21 P3.5 (io), 22 P3.4 (io), 23 P3.3 (io), 24 P3.2 (io), 25 P3.1 (io), 26 P3.0 (io), 27 P2.7 (io), 28 P2.6 (io), 29 P2.5 (io), 30 P2.4 (io), 31 P2.3 (io), 32 P2.2 (io), 33 P2.1 (io), 34 P2.0 (io), 35 P1.7 (io), 36 P1.6 (io), 37 P1.5 (io), 38 P1.4 (io), 39 P1.3 (io), 40 P1.2 (io), 41 P1.1 (io), 42 P1.0 (io), 43 P0.7/CANRX (io), 44 P0.6/CANTX (io), 45 P0.5/UART0RX (io), 46 P0.4/UART0TX (io), 47 P0.3/XTAL2 (io), 48 P0.2/XTAL1 (io), 49 EP (power)

## C8051F584-AQ
designator U?
Mixed Signal 96KB ISP Flash MCU, 8448B RAM, 40 I/Os, 12-Bit 32 Channel ADC, CAN 2.0, LIN 2.1, 48-Pin QFP, Automotive Grade; Manufacturer: Silicon Labs; PartNumber: C8051F584-AQ; DatasheetVersion: rev1.2, 2011; PackageVersion: 2011; PackageReference: QFP-48; PackageDescription: 48-Pin Thin Quad Flat Pack, 7 x 7 x 1 mm Body, 0.5 mm Pitch; Code_JEDEC: MS-026-ABC; ComponentLink1Description: Manufacturer URL; ComponentLink1URL: http://www.silabs.com; ComponentLink2Description: Datasheet; ComponentLink2URL: http://www.silabs.com/Support%20Documents/TechnicalDocs/C8051F58x-59x.pdf
footprint QFP-48_N (Thin QFP, 48-Leads, Body 7x7mm, Pitch 0.5mm, IPC Medium Density)
footprint QFP-48_L (Thin QFP, 48-Leads, Body 7x7mm, Pitch 0.5mm, IPC High Density)
footprint QFP-48_M (Thin QFP, 48-Leads, Body 7x7mm, Pitch 0.5mm, IPC Low Density)
pins: 1 P0.1/CNVSTR (io), 2 VIO (power), 3 VREGIN (power), 4 VDD (power), 5 VDDA (power), 6 GND (power), 7 GNDA (power), 8 P0.0/VREF (io), 9 P4.7 (io), 10 P4.6 (io), 11 C2D (io), 12 ~{RST}/C2CK (io), 13 P4.5 (io), 14 P4.4 (io), 15 P4.3 (io), 16 P4.2 (io), 17 P4.1 (io), 18 P4.0 (io), 19 P3.7 (io), 20 P3.6 (io), 21 P3.5 (io), 22 P3.4 (io), 23 P3.3 (io), 24 P3.2 (io), 25 P3.1 (io), 26 P3.0 (io), 27 P2.7 (io), 28 P2.6 (io), 29 P2.5 (io), 30 P2.4 (io), 31 P2.3 (io), 32 P2.2 (io), 33 P2.1 (io), 34 P2.0 (io), 35 P1.7 (io), 36 P1.6 (io), 37 P1.5 (io), 38 P1.4 (io), 39 P1.3 (io), 40 P1.2 (io), 41 P1.1 (io), 42 P1.0 (io), 43 P0.7/CANRX (io), 44 P0.6/CANTX (io), 45 P0.5/UART0RX (io), 46 P0.4/UART0TX (io), 47 P0.3/XTAL2 (io), 48 P0.2/XTAL1 (io)

## C8051F584-IM
designator U?
Mixed Signal 96KB ISP Flash MCU, 8448B RAM, 40 I/Os, 12-Bit 32 Channel ADC, CAN 2.0, LIN 2.1, 48-Pin QFN, Industrial Grade; Manufacturer: Silicon Labs; PartNumber: C8051F584-IM; DatasheetVersion: rev1.2, 2011; PackageVersion: 2011; PackageReference: QFN-48; PackageDescription: 48-Pin Quad Flat No-Lead, 7 x 7 x 0.9 mm Body, 0.5 mm Pitch; Supplier 1: Digi-Key; Supplier Part Number 1: 336-1573-5-ND; Supplier 2: Mouser; Supplier Part Number 2: 634-C8051F584-IM; Code_JEDEC: MO-220-VKKD-4; ComponentLink1Description: Manufacturer URL; ComponentLink1URL: http://www.silabs.com; ComponentLink2Description: Datasheet; ComponentLink2URL: http://www.silabs.com/Support%20Documents/TechnicalDocs/C8051F58x-59x.pdf
footprint QFN-48_V (QFN, 48-Leads, Body 7x7mm, Pitch 0.5mm, Thermal Pad 4.05x4.05mm, Silicon Labs Recommended)
pins: 1 P0.1/CNVSTR (io), 2 VIO (power), 3 VREGIN (power), 4 VDD (power), 5 VDDA (power), 6 GND (power), 7 GNDA (power), 8 P0.0/VREF (io), 9 P4.7 (io), 10 P4.6 (io), 11 C2D (io), 12 ~{RST}/C2CK (io), 13 P4.5 (io), 14 P4.4 (io), 15 P4.3 (io), 16 P4.2 (io), 17 P4.1 (io), 18 P4.0 (io), 19 P3.7 (io), 20 P3.6 (io), 21 P3.5 (io), 22 P3.4 (io), 23 P3.3 (io), 24 P3.2 (io), 25 P3.1 (io), 26 P3.0 (io), 27 P2.7 (io), 28 P2.6 (io), 29 P2.5 (io), 30 P2.4 (io), 31 P2.3 (io), 32 P2.2 (io), 33 P2.1 (io), 34 P2.0 (io), 35 P1.7 (io), 36 P1.6 (io), 37 P1.5 (io), 38 P1.4 (io), 39 P1.3 (io), 40 P1.2 (io), 41 P1.1 (io), 42 P1.0 (io), 43 P0.7/CANRX (io), 44 P0.6/CANTX (io), 45 P0.5/UART0RX (io), 46 P0.4/UART0TX (io), 47 P0.3/XTAL2 (io), 48 P0.2/XTAL1 (io), 49 EP (power)

## C8051F584-IQ
designator U?
Mixed Signal 96KB ISP Flash MCU, 8448B RAM, 40 I/Os, 12-Bit 32 Channel ADC, CAN 2.0, LIN 2.1, 48-Pin QFP, Industrial Grade; Manufacturer: Silicon Labs; PartNumber: C8051F584-IQ; DatasheetVersion: rev1.2, 2011; PackageVersion: 2011; PackageReference: QFP-48; PackageDescription: 48-Pin Thin Quad Flat Pack, 7 x 7 x 1 mm Body, 0.5 mm Pitch; Supplier 1: Digi-Key; Supplier Part Number 1: 336-1572-ND; Supplier 2: Mouser; Supplier Part Number 2: 634-C8051F584-IQ; Code_JEDEC: MS-026-ABC; ComponentLink1Description: Manufacturer URL; ComponentLink1URL: http://www.silabs.com; ComponentLink2Description: Datasheet; ComponentLink2URL: http://www.silabs.com/Support%20Documents/TechnicalDocs/C8051F58x-59x.pdf
footprint QFP-48_N (Thin QFP, 48-Leads, Body 7x7mm, Pitch 0.5mm, IPC Medium Density)
footprint QFP-48_L (Thin QFP, 48-Leads, Body 7x7mm, Pitch 0.5mm, IPC High Density)
footprint QFP-48_M (Thin QFP, 48-Leads, Body 7x7mm, Pitch 0.5mm, IPC Low Density)
pins: 1 P0.1/CNVSTR (io), 2 VIO (power), 3 VREGIN (power), 4 VDD (power), 5 VDDA (power), 6 GND (power), 7 GNDA (power), 8 P0.0/VREF (io), 9 P4.7 (io), 10 P4.6 (io), 11 C2D (io), 12 ~{RST}/C2CK (io), 13 P4.5 (io), 14 P4.4 (io), 15 P4.3 (io), 16 P4.2 (io), 17 P4.1 (io), 18 P4.0 (io), 19 P3.7 (io), 20 P3.6 (io), 21 P3.5 (io), 22 P3.4 (io), 23 P3.3 (io), 24 P3.2 (io), 25 P3.1 (io), 26 P3.0 (io), 27 P2.7 (io), 28 P2.6 (io), 29 P2.5 (io), 30 P2.4 (io), 31 P2.3 (io), 32 P2.2 (io), 33 P2.1 (io), 34 P2.0 (io), 35 P1.7 (io), 36 P1.6 (io), 37 P1.5 (io), 38 P1.4 (io), 39 P1.3 (io), 40 P1.2 (io), 41 P1.1 (io), 42 P1.0 (io), 43 P0.7/CANRX (io), 44 P0.6/CANTX (io), 45 P0.5/UART0RX (io), 46 P0.4/UART0TX (io), 47 P0.3/XTAL2 (io), 48 P0.2/XTAL1 (io)

## C8051F585-AM
designator U?
Mixed Signal 96KB ISP Flash MCU, 8448B RAM, 40 I/Os, 12-Bit 32 Channel ADC, 48-Pin QFN, Automotive Grade; Manufacturer: Silicon Labs; PartNumber: C8051F585-AM; DatasheetVersion: rev1.2, 2011; PackageVersion: 2011; PackageReference: QFN-48; PackageDescription: 48-Pin Quad Flat No-Lead, 7 x 7 x 0.9 mm Body, 0.5 mm Pitch; Code_JEDEC: MO-220-VKKD-4; ComponentLink1Description: Manufacturer URL; ComponentLink1URL: http://www.silabs.com; ComponentLink2Description: Datasheet; ComponentLink2URL: http://www.silabs.com/Support%20Documents/TechnicalDocs/C8051F58x-59x.pdf
footprint QFN-48_V (QFN, 48-Leads, Body 7x7mm, Pitch 0.5mm, Thermal Pad 4.05x4.05mm, Silicon Labs Recommended)
pins: 1 P0.1/CNVSTR (io), 2 VIO (power), 3 VREGIN (power), 4 VDD (power), 5 VDDA (power), 6 GND (power), 7 GNDA (power), 8 P0.0/VREF (io), 9 P4.7 (io), 10 P4.6 (io), 11 C2D (io), 12 ~{RST}/C2CK (io), 13 P4.5 (io), 14 P4.4 (io), 15 P4.3 (io), 16 P4.2 (io), 17 P4.1 (io), 18 P4.0 (io), 19 P3.7 (io), 20 P3.6 (io), 21 P3.5 (io), 22 P3.4 (io), 23 P3.3 (io), 24 P3.2 (io), 25 P3.1 (io), 26 P3.0 (io), 27 P2.7 (io), 28 P2.6 (io), 29 P2.5 (io), 30 P2.4 (io), 31 P2.3 (io), 32 P2.2 (io), 33 P2.1 (io), 34 P2.0 (io), 35 P1.7 (io), 36 P1.6 (io), 37 P1.5 (io), 38 P1.4 (io), 39 P1.3 (io), 40 P1.2 (io), 41 P1.1 (io), 42 P1.0 (io), 43 P0.7/CANRX (io), 44 P0.6/CANTX (io), 45 P0.5/UART0RX (io), 46 P0.4/UART0TX (io), 47 P0.3/XTAL2 (io), 48 P0.2/XTAL1 (io), 49 EP (power)

## C8051F585-AQ
designator U?
Mixed Signal 96KB ISP Flash MCU, 8448B RAM, 40 I/Os, 12-Bit 32 Channel ADC, 48-Pin QFP, Automotive Grade; Manufacturer: Silicon Labs; PartNumber: C8051F585-AQ; DatasheetVersion: rev1.2, 2011; PackageVersion: 2011; PackageReference: QFP-48; PackageDescription: 48-Pin Thin Quad Flat Pack, 7 x 7 x 1 mm Body, 0.5 mm Pitch; Code_JEDEC: MS-026-ABC; ComponentLink1Description: Manufacturer URL; ComponentLink1URL: http://www.silabs.com; ComponentLink2Description: Datasheet; ComponentLink2URL: http://www.silabs.com/Support%20Documents/TechnicalDocs/C8051F58x-59x.pdf
footprint QFP-48_N (Thin QFP, 48-Leads, Body 7x7mm, Pitch 0.5mm, IPC Medium Density)
footprint QFP-48_L (Thin QFP, 48-Leads, Body 7x7mm, Pitch 0.5mm, IPC High Density)
footprint QFP-48_M (Thin QFP, 48-Leads, Body 7x7mm, Pitch 0.5mm, IPC Low Density)
pins: 1 P0.1/CNVSTR (io), 2 VIO (power), 3 VREGIN (power), 4 VDD (power), 5 VDDA (power), 6 GND (power), 7 GNDA (power), 8 P0.0/VREF (io), 9 P4.7 (io), 10 P4.6 (io), 11 C2D (io), 12 ~{RST}/C2CK (io), 13 P4.5 (io), 14 P4.4 (io), 15 P4.3 (io), 16 P4.2 (io), 17 P4.1 (io), 18 P4.0 (io), 19 P3.7 (io), 20 P3.6 (io), 21 P3.5 (io), 22 P3.4 (io), 23 P3.3 (io), 24 P3.2 (io), 25 P3.1 (io), 26 P3.0 (io), 27 P2.7 (io), 28 P2.6 (io), 29 P2.5 (io), 30 P2.4 (io), 31 P2.3 (io), 32 P2.2 (io), 33 P2.1 (io), 34 P2.0 (io), 35 P1.7 (io), 36 P1.6 (io), 37 P1.5 (io), 38 P1.4 (io), 39 P1.3 (io), 40 P1.2 (io), 41 P1.1 (io), 42 P1.0 (io), 43 P0.7/CANRX (io), 44 P0.6/CANTX (io), 45 P0.5/UART0RX (io), 46 P0.4/UART0TX (io), 47 P0.3/XTAL2 (io), 48 P0.2/XTAL1 (io)

## C8051F585-IM
designator U?
Mixed Signal 96KB ISP Flash MCU, 8448B RAM, 40 I/Os, 12-Bit 32 Channel ADC, 48-Pin QFN, Industrial Grade; Manufacturer: Silicon Labs; PartNumber: C8051F585-IM; DatasheetVersion: rev1.2, 2011; PackageVersion: 2011; PackageReference: QFN-48; PackageDescription: 48-Pin Quad Flat No-Lead, 7 x 7 x 0.9 mm Body, 0.5 mm Pitch; Supplier 1: Digi-Key; Supplier Part Number 1: 336-1575-5-ND; Supplier 2: Mouser; Supplier Part Number 2: 634-C8051F585-IM; Code_JEDEC: MO-220-VKKD-4; ComponentLink1Description: Manufacturer URL; ComponentLink1URL: http://www.silabs.com; ComponentLink2Description: Datasheet; ComponentLink2URL: http://www.silabs.com/Support%20Documents/TechnicalDocs/C8051F58x-59x.pdf
footprint QFN-48_V (QFN, 48-Leads, Body 7x7mm, Pitch 0.5mm, Thermal Pad 4.05x4.05mm, Silicon Labs Recommended)
pins: 1 P0.1/CNVSTR (io), 2 VIO (power), 3 VREGIN (power), 4 VDD (power), 5 VDDA (power), 6 GND (power), 7 GNDA (power), 8 P0.0/VREF (io), 9 P4.7 (io), 10 P4.6 (io), 11 C2D (io), 12 ~{RST}/C2CK (io), 13 P4.5 (io), 14 P4.4 (io), 15 P4.3 (io), 16 P4.2 (io), 17 P4.1 (io), 18 P4.0 (io), 19 P3.7 (io), 20 P3.6 (io), 21 P3.5 (io), 22 P3.4 (io), 23 P3.3 (io), 24 P3.2 (io), 25 P3.1 (io), 26 P3.0 (io), 27 P2.7 (io), 28 P2.6 (io), 29 P2.5 (io), 30 P2.4 (io), 31 P2.3 (io), 32 P2.2 (io), 33 P2.1 (io), 34 P2.0 (io), 35 P1.7 (io), 36 P1.6 (io), 37 P1.5 (io), 38 P1.4 (io), 39 P1.3 (io), 40 P1.2 (io), 41 P1.1 (io), 42 P1.0 (io), 43 P0.7/CANRX (io), 44 P0.6/CANTX (io), 45 P0.5/UART0RX (io), 46 P0.4/UART0TX (io), 47 P0.3/XTAL2 (io), 48 P0.2/XTAL1 (io), 49 EP (power)

## C8051F585-IQ
designator U?
Mixed Signal 96KB ISP Flash MCU, 8448B RAM, 40 I/Os, 12-Bit 32 Channel ADC, 48-Pin QFP, Industrial Grade; Manufacturer: Silicon Labs; PartNumber: C8051F585-IQ; DatasheetVersion: rev1.2, 2011; PackageVersion: 2011; PackageReference: QFP-48; PackageDescription: 48-Pin Thin Quad Flat Pack, 7 x 7 x 1 mm Body, 0.5 mm Pitch; Supplier 1: Digi-Key; Supplier Part Number 1: 336-1574-ND; Supplier 2: Mouser; Supplier Part Number 2: 634-C8051F585-IQ; Code_JEDEC: MS-026-ABC; ComponentLink1Description: Manufacturer URL; ComponentLink1URL: http://www.silabs.com; ComponentLink2Description: Datasheet; ComponentLink2URL: http://www.silabs.com/Support%20Documents/TechnicalDocs/C8051F58x-59x.pdf
footprint QFP-48_N (Thin QFP, 48-Leads, Body 7x7mm, Pitch 0.5mm, IPC Medium Density)
footprint QFP-48_L (Thin QFP, 48-Leads, Body 7x7mm, Pitch 0.5mm, IPC High Density)
footprint QFP-48_M (Thin QFP, 48-Leads, Body 7x7mm, Pitch 0.5mm, IPC Low Density)
pins: 1 P0.1/CNVSTR (io), 2 VIO (power), 3 VREGIN (power), 4 VDD (power), 5 VDDA (power), 6 GND (power), 7 GNDA (power), 8 P0.0/VREF (io), 9 P4.7 (io), 10 P4.6 (io), 11 C2D (io), 12 ~{RST}/C2CK (io), 13 P4.5 (io), 14 P4.4 (io), 15 P4.3 (io), 16 P4.2 (io), 17 P4.1 (io), 18 P4.0 (io), 19 P3.7 (io), 20 P3.6 (io), 21 P3.5 (io), 22 P3.4 (io), 23 P3.3 (io), 24 P3.2 (io), 25 P3.1 (io), 26 P3.0 (io), 27 P2.7 (io), 28 P2.6 (io), 29 P2.5 (io), 30 P2.4 (io), 31 P2.3 (io), 32 P2.2 (io), 33 P2.1 (io), 34 P2.0 (io), 35 P1.7 (io), 36 P1.6 (io), 37 P1.5 (io), 38 P1.4 (io), 39 P1.3 (io), 40 P1.2 (io), 41 P1.1 (io), 42 P1.0 (io), 43 P0.7/CANRX (io), 44 P0.6/CANTX (io), 45 P0.5/UART0RX (io), 46 P0.4/UART0TX (io), 47 P0.3/XTAL2 (io), 48 P0.2/XTAL1 (io)

## C8051F586-AM
designator U?
Mixed Signal 96KB ISP Flash MCU, 8448B RAM, 25 I/Os, 12-Bit 25 Channel ADC, CAN 2.0, LIN 2.1, 32-Pin QFN, Automotive Grade; Manufacturer: Silicon Labs; PartNumber: C8051F586-AM; DatasheetVersion: rev1.2, 2011; PackageVersion: 2011; PackageReference: QFN-32; PackageDescription: 32-Pin Quad Flat No-Lead, 5 x 5 x 0.9 mm Body, 0.5 mm Pitch; Code_JEDEC: MO-220-VHHD; ComponentLink1Description: Manufacturer URL; ComponentLink1URL: http://www.silabs.com; ComponentLink2Description: Datasheet; ComponentLink2URL: http://www.silabs.com/Support%20Documents/TechnicalDocs/C8051F58x-59x.pdf
footprint QFN-32_V (QFN, 32-Leads, Body 5x5mm, Pitch 0.5mm, Thermal Pad 3.3x3.3mm, Silicon Labs Recommended)
pins: 1 P0.1/CNVSTR (io), 2 VIO (power), 3 VREGIN (power), 4 VDD (power), 5 VDDA (power), 6 GND (power), 7 GNDA (power), 8 P0.0/VREF (io), 9 P3.0/C2D (io), 10 ~{RST}/C2CK (io), 11 P2.7 (io), 12 P2.6 (io), 13 P2.5 (io), 14 P2.4 (io), 15 P2.3 (io), 16 P2.2 (io), 17 P2.1 (io), 18 P2.0 (io), 19 P1.7 (io), 20 P1.6 (io), 21 P1.5 (io), 22 P1.4 (io), 23 P1.3 (io), 24 P1.2 (io), 25 P1.1 (io), 26 P1.0 (io), 27 P0.7/CANRX (io), 28 P0.6/CANTX (io), 29 P0.5/UART0RX (io), 30 P0.4/UART0TX (io), 31 P0.3/XTAL2 (io), 32 P0.2/XTAL1 (io), 33 EP (power)

## C8051F586-AQ
designator U?
Mixed Signal 96KB ISP Flash MCU, 8448B RAM, 25 I/Os, 12-Bit 25 Channel ADC, CAN 2.0, LIN 2.1, 32-Pin QFP, Automotive Grade; Manufacturer: Silicon Labs; PartNumber: C8051F586-AQ; DatasheetVersion: rev1.2, 2011; PackageVersion: 2007; PackageReference: LQFP-32; PackageDescription: 32-Pin Thin Quad Flat Pack, 7 x 7 x 1.4 mm Body, 0.8 mm Pitch; ComponentLink1Description: Manufacturer URL; ComponentLink1URL: http://www.silabs.com; ComponentLink2Description: Datasheet; ComponentLink2URL: http://www.silabs.com/Support%20Documents/TechnicalDocs/C8051F58x-59x.pdf
footprint LQFP-32_N (Thin QFP, 32-Leads, Body 7x7mm, Pitch 0.8mm, IPC Medium Density)
footprint LQFP-32_L (Thin QFP, 32-Leads, Body 7x7mm, Pitch 0.8mm, IPC High Density)
footprint LQFP-32_M (Thin QFP, 32-Leads, Body 7x7mm, Pitch 0.8mm, IPC Low Density)
pins: 1 P0.1/CNVSTR (io), 2 VIO (power), 3 VREGIN (power), 4 VDD (power), 5 VDDA (power), 6 GND (power), 7 GNDA (power), 8 P0.0/VREF (io), 9 P3.0/C2D (io), 10 ~{RST}/C2CK (io), 11 P2.7 (io), 12 P2.6 (io), 13 P2.5 (io), 14 P2.4 (io), 15 P2.3 (io), 16 P2.2 (io), 17 P2.1 (io), 18 P2.0 (io), 19 P1.7 (io), 20 P1.6 (io), 21 P1.5 (io), 22 P1.4 (io), 23 P1.3 (io), 24 P1.2 (io), 25 P1.1 (io), 26 P1.0 (io), 27 P0.7/CANRX (io), 28 P0.6/CANTX (io), 29 P0.5/UART0RX (io), 30 P0.4/UART0TX (io), 31 P0.3/XTAL2 (io), 32 P0.2/XTAL1 (io)

## C8051F586-IM
designator U?
Mixed Signal 96KB ISP Flash MCU, 8448B RAM, 25 I/Os, 12-Bit 25 Channel ADC, CAN 2.0, LIN 2.1, 32-Pin QFN, Industrial Grade; Manufacturer: Silicon Labs; PartNumber: C8051F586-IM; DatasheetVersion: rev1.2, 2011; PackageVersion: 2011; PackageReference: QFN-32; PackageDescription: 32-Pin Quad Flat No-Lead, 5 x 5 x 0.9 mm Body, 0.5 mm Pitch; Supplier 1: Digi-Key; Supplier Part Number 1: 336-1577-5-ND; Supplier 2: Mouser; Supplier Part Number 2: 634-C8051F586-IM; Code_JEDEC: MO-220-VHHD; ComponentLink1Description: Manufacturer URL; ComponentLink1URL: http://www.silabs.com; ComponentLink2Description: Datasheet; ComponentLink2URL: http://www.silabs.com/Support%20Documents/TechnicalDocs/C8051F58x-59x.pdf
footprint QFN-32_V (QFN, 32-Leads, Body 5x5mm, Pitch 0.5mm, Thermal Pad 3.3x3.3mm, Silicon Labs Recommended)
pins: 1 P0.1/CNVSTR (io), 2 VIO (power), 3 VREGIN (power), 4 VDD (power), 5 VDDA (power), 6 GND (power), 7 GNDA (power), 8 P0.0/VREF (io), 9 P3.0/C2D (io), 10 ~{RST}/C2CK (io), 11 P2.7 (io), 12 P2.6 (io), 13 P2.5 (io), 14 P2.4 (io), 15 P2.3 (io), 16 P2.2 (io), 17 P2.1 (io), 18 P2.0 (io), 19 P1.7 (io), 20 P1.6 (io), 21 P1.5 (io), 22 P1.4 (io), 23 P1.3 (io), 24 P1.2 (io), 25 P1.1 (io), 26 P1.0 (io), 27 P0.7/CANRX (io), 28 P0.6/CANTX (io), 29 P0.5/UART0RX (io), 30 P0.4/UART0TX (io), 31 P0.3/XTAL2 (io), 32 P0.2/XTAL1 (io), 33 EP (power)

## C8051F586-IQ
designator U?
Mixed Signal 96KB ISP Flash MCU, 8448B RAM, 25 I/Os, 12-Bit 25 Channel ADC, CAN 2.0, LIN 2.1, 32-Pin QFP, Industrial Grade; Manufacturer: Silicon Labs; PartNumber: C8051F586-IQ; DatasheetVersion: rev1.2, 2011; PackageVersion: 2007; PackageReference: LQFP-32; PackageDescription: 32-Pin Thin Quad Flat Pack, 7 x 7 x 1.4 mm Body, 0.8 mm Pitch; Supplier 1: Digi-Key; Supplier Part Number 1: 336-1576-ND; Supplier 2: Mouser; Supplier Part Number 2: 634-C8051F586-IQ; ComponentLink1Description: Manufacturer URL; ComponentLink1URL: http://www.silabs.com; ComponentLink2Description: Datasheet; ComponentLink2URL: http://www.silabs.com/Support%20Documents/TechnicalDocs/C8051F58x-59x.pdf
footprint LQFP-32_N (Thin QFP, 32-Leads, Body 7x7mm, Pitch 0.8mm, IPC Medium Density)
footprint LQFP-32_L (Thin QFP, 32-Leads, Body 7x7mm, Pitch 0.8mm, IPC High Density)
footprint LQFP-32_M (Thin QFP, 32-Leads, Body 7x7mm, Pitch 0.8mm, IPC Low Density)
pins: 1 P0.1/CNVSTR (io), 2 VIO (power), 3 VREGIN (power), 4 VDD (power), 5 VDDA (power), 6 GND (power), 7 GNDA (power), 8 P0.0/VREF (io), 9 P3.0/C2D (io), 10 ~{RST}/C2CK (io), 11 P2.7 (io), 12 P2.6 (io), 13 P2.5 (io), 14 P2.4 (io), 15 P2.3 (io), 16 P2.2 (io), 17 P2.1 (io), 18 P2.0 (io), 19 P1.7 (io), 20 P1.6 (io), 21 P1.5 (io), 22 P1.4 (io), 23 P1.3 (io), 24 P1.2 (io), 25 P1.1 (io), 26 P1.0 (io), 27 P0.7/CANRX (io), 28 P0.6/CANTX (io), 29 P0.5/UART0RX (io), 30 P0.4/UART0TX (io), 31 P0.3/XTAL2 (io), 32 P0.2/XTAL1 (io)

## C8051F587-AM
designator U?
Mixed Signal 96KB ISP Flash MCU, 8448B RAM, 25 I/Os, 12-Bit 25 Channel ADC, 32-Pin QFN, Automotive Grade; Manufacturer: Silicon Labs; PartNumber: C8051F587-AM; DatasheetVersion: rev1.2, 2011; PackageVersion: 2011; PackageReference: QFN-32; PackageDescription: 32-Pin Quad Flat No-Lead, 5 x 5 x 0.9 mm Body, 0.5 mm Pitch; Code_JEDEC: MO-220-VHHD; ComponentLink1Description: Manufacturer URL; ComponentLink1URL: http://www.silabs.com; ComponentLink2Description: Datasheet; ComponentLink2URL: http://www.silabs.com/Support%20Documents/TechnicalDocs/C8051F58x-59x.pdf
footprint QFN-32_V (QFN, 32-Leads, Body 5x5mm, Pitch 0.5mm, Thermal Pad 3.3x3.3mm, Silicon Labs Recommended)
pins: 1 P0.1/CNVSTR (io), 2 VIO (power), 3 VREGIN (power), 4 VDD (power), 5 VDDA (power), 6 GND (power), 7 GNDA (power), 8 P0.0/VREF (io), 9 P3.0/C2D (io), 10 ~{RST}/C2CK (io), 11 P2.7 (io), 12 P2.6 (io), 13 P2.5 (io), 14 P2.4 (io), 15 P2.3 (io), 16 P2.2 (io), 17 P2.1 (io), 18 P2.0 (io), 19 P1.7 (io), 20 P1.6 (io), 21 P1.5 (io), 22 P1.4 (io), 23 P1.3 (io), 24 P1.2 (io), 25 P1.1 (io), 26 P1.0 (io), 27 P0.7/CANRX (io), 28 P0.6/CANTX (io), 29 P0.5/UART0RX (io), 30 P0.4/UART0TX (io), 31 P0.3/XTAL2 (io), 32 P0.2/XTAL1 (io), 33 EP (power)

## C8051F587-AQ
designator U?
Mixed Signal 96KB ISP Flash MCU, 8448B RAM, 25 I/Os, 12-Bit 25 Channel ADC, 32-Pin QFP, Automotive Grade; Manufacturer: Silicon Labs; PartNumber: C8051F587-AQ; DatasheetVersion: rev1.2, 2011; PackageVersion: 2007; PackageReference: LQFP-32; PackageDescription: 32-Pin Thin Quad Flat Pack, 7 x 7 x 1.4 mm Body, 0.8 mm Pitch; ComponentLink1Description: Manufacturer URL; ComponentLink1URL: http://www.silabs.com; ComponentLink2Description: Datasheet; ComponentLink2URL: http://www.silabs.com/Support%20Documents/TechnicalDocs/C8051F58x-59x.pdf
footprint LQFP-32_N (Thin QFP, 32-Leads, Body 7x7mm, Pitch 0.8mm, IPC Medium Density)
footprint LQFP-32_L (Thin QFP, 32-Leads, Body 7x7mm, Pitch 0.8mm, IPC High Density)
footprint LQFP-32_M (Thin QFP, 32-Leads, Body 7x7mm, Pitch 0.8mm, IPC Low Density)
pins: 1 P0.1/CNVSTR (io), 2 VIO (power), 3 VREGIN (power), 4 VDD (power), 5 VDDA (power), 6 GND (power), 7 GNDA (power), 8 P0.0/VREF (io), 9 P3.0/C2D (io), 10 ~{RST}/C2CK (io), 11 P2.7 (io), 12 P2.6 (io), 13 P2.5 (io), 14 P2.4 (io), 15 P2.3 (io), 16 P2.2 (io), 17 P2.1 (io), 18 P2.0 (io), 19 P1.7 (io), 20 P1.6 (io), 21 P1.5 (io), 22 P1.4 (io), 23 P1.3 (io), 24 P1.2 (io), 25 P1.1 (io), 26 P1.0 (io), 27 P0.7/CANRX (io), 28 P0.6/CANTX (io), 29 P0.5/UART0RX (io), 30 P0.4/UART0TX (io), 31 P0.3/XTAL2 (io), 32 P0.2/XTAL1 (io)

## C8051F587-IM
designator U?
Mixed Signal 96KB ISP Flash MCU, 8448B RAM, 25 I/Os, 12-Bit 25 Channel ADC, 32-Pin QFN, Industrial Grade; Manufacturer: Silicon Labs; PartNumber: C8051F587-IM; DatasheetVersion: rev1.2, 2011; PackageVersion: 2011; PackageReference: QFN-32; PackageDescription: 32-Pin Quad Flat No-Lead, 5 x 5 x 0.9 mm Body, 0.5 mm Pitch; Supplier 1: Digi-Key; Supplier Part Number 1: 336-1579-5-ND; Supplier 2: Mouser; Supplier Part Number 2: 634-C8051F587-IM; Code_JEDEC: MO-220-VHHD; ComponentLink1Description: Manufacturer URL; ComponentLink1URL: http://www.silabs.com; ComponentLink2Description: Datasheet; ComponentLink2URL: http://www.silabs.com/Support%20Documents/TechnicalDocs/C8051F58x-59x.pdf
footprint QFN-32_V (QFN, 32-Leads, Body 5x5mm, Pitch 0.5mm, Thermal Pad 3.3x3.3mm, Silicon Labs Recommended)
pins: 1 P0.1/CNVSTR (io), 2 VIO (power), 3 VREGIN (power), 4 VDD (power), 5 VDDA (power), 6 GND (power), 7 GNDA (power), 8 P0.0/VREF (io), 9 P3.0/C2D (io), 10 ~{RST}/C2CK (io), 11 P2.7 (io), 12 P2.6 (io), 13 P2.5 (io), 14 P2.4 (io), 15 P2.3 (io), 16 P2.2 (io), 17 P2.1 (io), 18 P2.0 (io), 19 P1.7 (io), 20 P1.6 (io), 21 P1.5 (io), 22 P1.4 (io), 23 P1.3 (io), 24 P1.2 (io), 25 P1.1 (io), 26 P1.0 (io), 27 P0.7/CANRX (io), 28 P0.6/CANTX (io), 29 P0.5/UART0RX (io), 30 P0.4/UART0TX (io), 31 P0.3/XTAL2 (io), 32 P0.2/XTAL1 (io), 33 EP (power)

## C8051F587-IQ
designator U?
Mixed Signal 96KB ISP Flash MCU, 8448B RAM, 25 I/Os, 12-Bit 25 Channel ADC, 32-Pin QFP, Industrial Grade; Manufacturer: Silicon Labs; PartNumber: C8051F587-IQ; DatasheetVersion: rev1.2, 2011; PackageVersion: 2007; PackageReference: LQFP-32; PackageDescription: 32-Pin Thin Quad Flat Pack, 7 x 7 x 1.4 mm Body, 0.8 mm Pitch; Supplier 1: Digi-Key; Supplier Part Number 1: 336-1578-ND; Supplier 2: Mouser; Supplier Part Number 2: 634-C8051F587-IQ; ComponentLink1Description: Manufacturer URL; ComponentLink1URL: http://www.silabs.com; ComponentLink2Description: Datasheet; ComponentLink2URL: http://www.silabs.com/Support%20Documents/TechnicalDocs/C8051F58x-59x.pdf
footprint LQFP-32_N (Thin QFP, 32-Leads, Body 7x7mm, Pitch 0.8mm, IPC Medium Density)
footprint LQFP-32_L (Thin QFP, 32-Leads, Body 7x7mm, Pitch 0.8mm, IPC High Density)
footprint LQFP-32_M (Thin QFP, 32-Leads, Body 7x7mm, Pitch 0.8mm, IPC Low Density)
pins: 1 P0.1/CNVSTR (io), 2 VIO (power), 3 VREGIN (power), 4 VDD (power), 5 VDDA (power), 6 GND (power), 7 GNDA (power), 8 P0.0/VREF (io), 9 P3.0/C2D (io), 10 ~{RST}/C2CK (io), 11 P2.7 (io), 12 P2.6 (io), 13 P2.5 (io), 14 P2.4 (io), 15 P2.3 (io), 16 P2.2 (io), 17 P2.1 (io), 18 P2.0 (io), 19 P1.7 (io), 20 P1.6 (io), 21 P1.5 (io), 22 P1.4 (io), 23 P1.3 (io), 24 P1.2 (io), 25 P1.1 (io), 26 P1.0 (io), 27 P0.7/CANRX (io), 28 P0.6/CANTX (io), 29 P0.5/UART0RX (io), 30 P0.4/UART0TX (io), 31 P0.3/XTAL2 (io), 32 P0.2/XTAL1 (io)

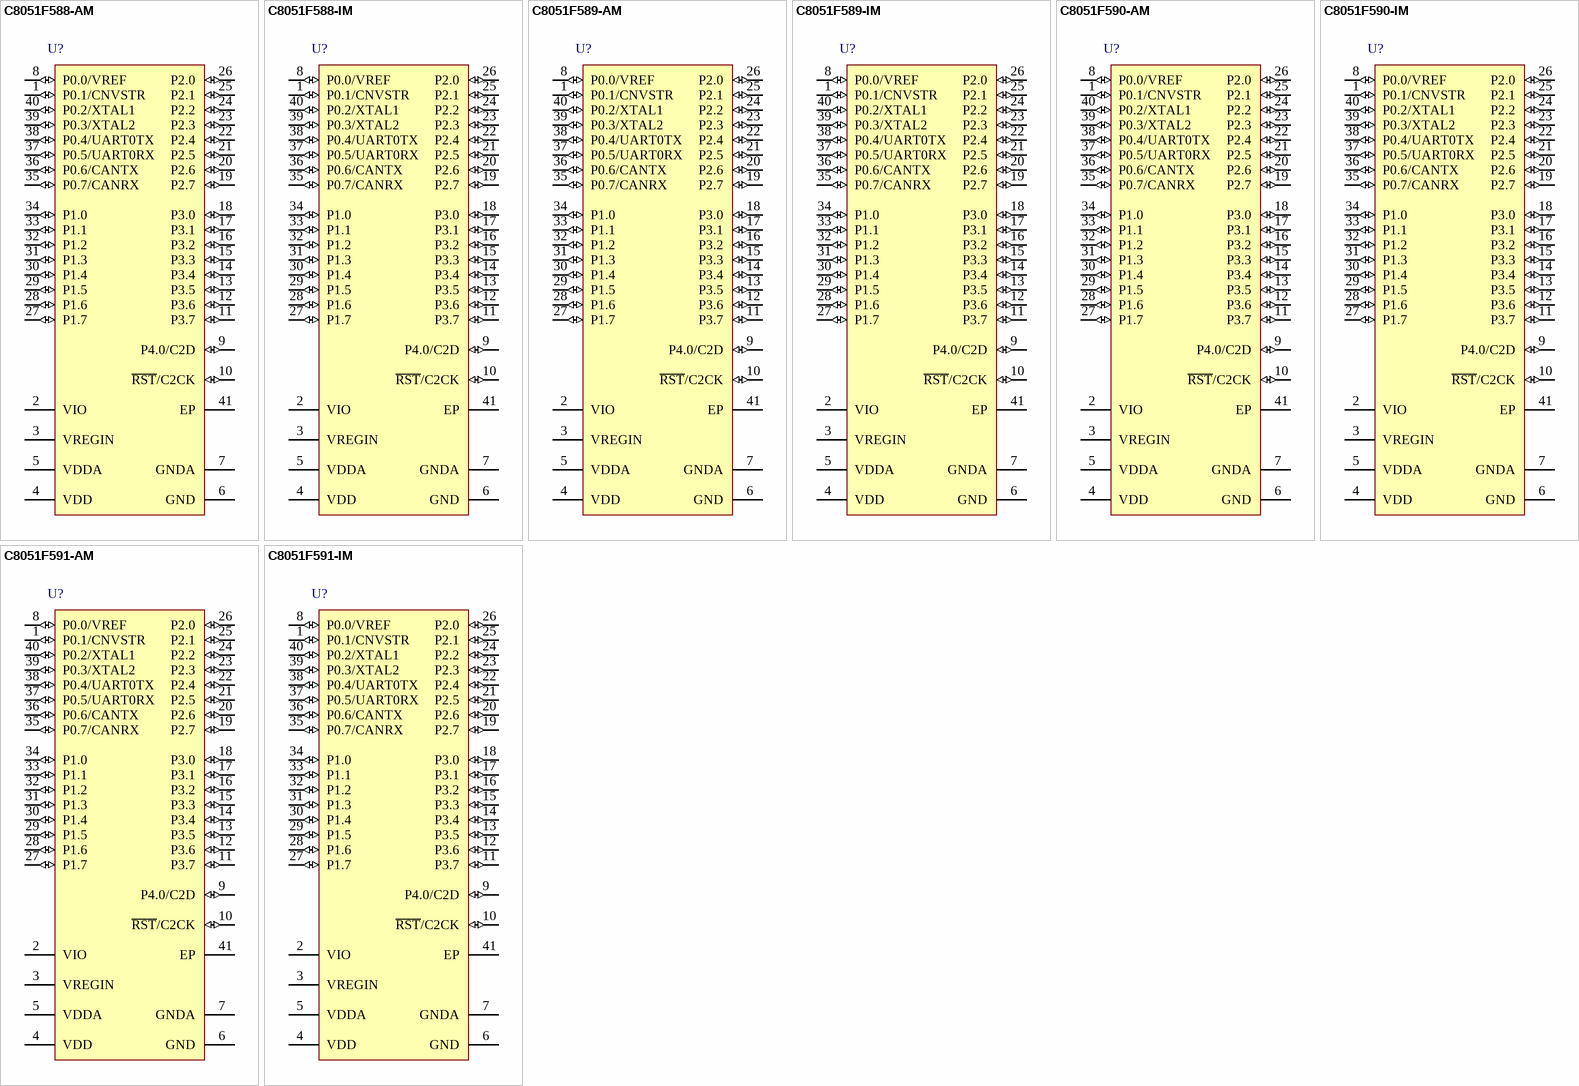
[diagram p13: symbols C8051F588-AM to C8051F591-IM]

## C8051F588-AM
designator U?
Mixed Signal 128KB ISP Flash MCU, 8448B RAM, 33 I/Os, 12-Bit 32 Channel ADC, CAN 2.0, LIN 2.1, 40-Pin QFN, Automotive Grade; Manufacturer: Silicon Labs; PartNumber: C8051F588-AM; DatasheetVersion: rev1.2, 2011; PackageVersion: 2011; PackageReference: QFN-40; PackageDescription: 40-Pin Quad Flat No-Lead, 6 x 6 x 0.85 mm Body, 0.5 mm Pitch; Code_JEDEC: MO-220-VJJD-5; ComponentLink1Description: Manufacturer URL; ComponentLink1URL: http://www.silabs.com; ComponentLink2Description: Datasheet; ComponentLink2URL: http://www.silabs.com/Support%20Documents/TechnicalDocs/C8051F58x-59x.pdf
footprint QFN-40_V (QFN, 40-Leads, Body 6x6mm, Pitch 0.5mm, Thermal Pad 4.15x4.15mm, Silicon Labs Recommended)
pins: 1 P0.1/CNVSTR (io), 2 VIO (power), 3 VREGIN (power), 4 VDD (power), 5 VDDA (power), 6 GND (power), 7 GNDA (power), 8 P0.0/VREF (io), 9 P4.0/C2D (io), 10 ~{RST}/C2CK (io), 11 P3.7 (io), 12 P3.6 (io), 13 P3.5 (io), 14 P3.4 (io), 15 P3.3 (io), 16 P3.2 (io), 17 P3.1 (io), 18 P3.0 (io), 19 P2.7 (io), 20 P2.6 (io), 21 P2.5 (io), 22 P2.4 (io), 23 P2.3 (io), 24 P2.2 (io), 25 P2.1 (io), 26 P2.0 (io), 27 P1.7 (io), 28 P1.6 (io), 29 P1.5 (io), 30 P1.4 (io), 31 P1.3 (io), 32 P1.2 (io), 33 P1.1 (io), 34 P1.0 (io), 35 P0.7/CANRX (io), 36 P0.6/CANTX (io), 37 P0.5/UART0RX (io), 38 P0.4/UART0TX (io), 39 P0.3/XTAL2 (io), 40 P0.2/XTAL1 (io), 41 EP (power)

## C8051F588-IM
designator U?
Mixed Signal 128KB ISP Flash MCU, 8448B RAM, 33 I/Os, 12-Bit 32 Channel ADC, CAN 2.0, LIN 2.1, 40-Pin QFN, Industrial Grade; Manufacturer: Silicon Labs; PartNumber: C8051F588-IM; DatasheetVersion: rev1.2, 2011; PackageVersion: 2011; PackageReference: QFN-40; PackageDescription: 40-Pin Quad Flat No-Lead, 6 x 6 x 0.85 mm Body, 0.5 mm Pitch; Supplier 1: Digi-Key; Supplier Part Number 1: 336-1580-5-ND; Supplier 2: Mouser; Supplier Part Number 2: 634-C8051F588-IM; Code_JEDEC: MO-220-VJJD-5; ComponentLink1Description: Manufacturer URL; ComponentLink1URL: http://www.silabs.com; ComponentLink2Description: Datasheet; ComponentLink2URL: http://www.silabs.com/Support%20Documents/TechnicalDocs/C8051F58x-59x.pdf
footprint QFN-40_V (QFN, 40-Leads, Body 6x6mm, Pitch 0.5mm, Thermal Pad 4.15x4.15mm, Silicon Labs Recommended)
pins: 1 P0.1/CNVSTR (io), 2 VIO (power), 3 VREGIN (power), 4 VDD (power), 5 VDDA (power), 6 GND (power), 7 GNDA (power), 8 P0.0/VREF (io), 9 P4.0/C2D (io), 10 ~{RST}/C2CK (io), 11 P3.7 (io), 12 P3.6 (io), 13 P3.5 (io), 14 P3.4 (io), 15 P3.3 (io), 16 P3.2 (io), 17 P3.1 (io), 18 P3.0 (io), 19 P2.7 (io), 20 P2.6 (io), 21 P2.5 (io), 22 P2.4 (io), 23 P2.3 (io), 24 P2.2 (io), 25 P2.1 (io), 26 P2.0 (io), 27 P1.7 (io), 28 P1.6 (io), 29 P1.5 (io), 30 P1.4 (io), 31 P1.3 (io), 32 P1.2 (io), 33 P1.1 (io), 34 P1.0 (io), 35 P0.7/CANRX (io), 36 P0.6/CANTX (io), 37 P0.5/UART0RX (io), 38 P0.4/UART0TX (io), 39 P0.3/XTAL2 (io), 40 P0.2/XTAL1 (io), 41 EP (power)

## C8051F589-AM
designator U?
Mixed Signal 128KB ISP Flash MCU, 8448B RAM, 33 I/Os, 12-Bit 32 Channel ADC, 40-Pin QFN, Automotive Grade; Manufacturer: Silicon Labs; PartNumber: C8051F589-AM; DatasheetVersion: rev1.2, 2011; PackageVersion: 2011; PackageReference: QFN-40; PackageDescription: 40-Pin Quad Flat No-Lead, 6 x 6 x 0.85 mm Body, 0.5 mm Pitch; Code_JEDEC: MO-220-VJJD-5; ComponentLink1Description: Manufacturer URL; ComponentLink1URL: http://www.silabs.com; ComponentLink2Description: Datasheet; ComponentLink2URL: http://www.silabs.com/Support%20Documents/TechnicalDocs/C8051F58x-59x.pdf
footprint QFN-40_V (QFN, 40-Leads, Body 6x6mm, Pitch 0.5mm, Thermal Pad 4.15x4.15mm, Silicon Labs Recommended)
pins: 1 P0.1/CNVSTR (io), 2 VIO (power), 3 VREGIN (power), 4 VDD (power), 5 VDDA (power), 6 GND (power), 7 GNDA (power), 8 P0.0/VREF (io), 9 P4.0/C2D (io), 10 ~{RST}/C2CK (io), 11 P3.7 (io), 12 P3.6 (io), 13 P3.5 (io), 14 P3.4 (io), 15 P3.3 (io), 16 P3.2 (io), 17 P3.1 (io), 18 P3.0 (io), 19 P2.7 (io), 20 P2.6 (io), 21 P2.5 (io), 22 P2.4 (io), 23 P2.3 (io), 24 P2.2 (io), 25 P2.1 (io), 26 P2.0 (io), 27 P1.7 (io), 28 P1.6 (io), 29 P1.5 (io), 30 P1.4 (io), 31 P1.3 (io), 32 P1.2 (io), 33 P1.1 (io), 34 P1.0 (io), 35 P0.7/CANRX (io), 36 P0.6/CANTX (io), 37 P0.5/UART0RX (io), 38 P0.4/UART0TX (io), 39 P0.3/XTAL2 (io), 40 P0.2/XTAL1 (io), 41 EP (power)